# EAGLE library part FE22-2 (library con-edge-100)
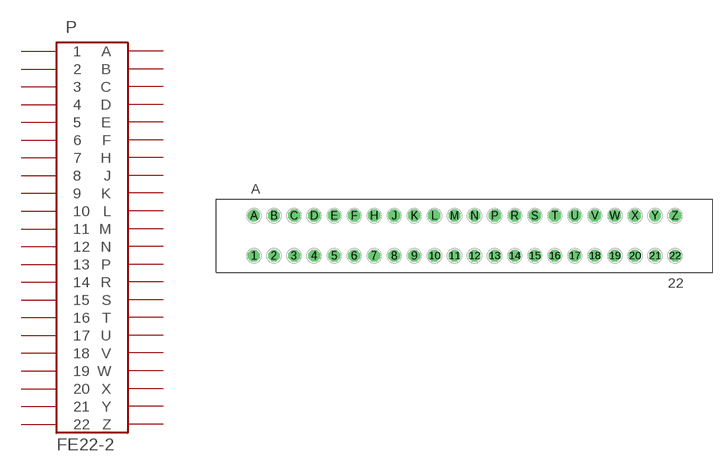
[diagram p1: symbol with the pads of FE22-2; footprint FE22-2]

Designator prefix P

## FE22-2  [FE22-2]
1  1  pas
2  2  pas
3  3  pas
4  4  pas
5  5  pas
6  6  pas
7  7  pas
8  8  pas
9  9  pas
10  10  pas
11  11  pas
12  12  pas
13  13  pas
14  14  pas
15  15  pas
16  16  pas
17  17  pas
18  18  pas
19  19  pas
20  20  pas
21  21  pas
22  22  pas
A  A  pas
B  B  pas
C  C  pas
D  D  pas
E  E  pas
F  F  pas
H  H  pas
J  J  pas
K  K  pas
L  L  pas
M  M  pas
N  N  pas
P  P  pas
R  R  pas
S  S  pas
T  T  pas
U  U  pas
V  V  pas
W  W  pas
X  X  pas
Y  Y  pas
Z  Z  pas

## Footprint FE22-2 (pad centres in mm)
drill 1 octagon: 1 -26.67,-2.54; 2 -24.13,-2.54; 3 -21.59,-2.54; 4 -19.05,-2.54; 5 -16.51,-2.54; 6 -13.97,-2.54; 7 -11.43,-2.54; 8 -8.89,-2.54; 9 -6.35,-2.54; 10 -3.81,-2.54; 11 -1.27,-2.54; 12 1.27,-2.54; 13 3.81,-2.54; 14 6.35,-2.54; 15 8.89,-2.54; 16 11.43,-2.54; 17 13.97,-2.54; 18 16.51,-2.54; 19 19.05,-2.54; 20 21.59,-2.54; 21 24.13,-2.54; 22 26.67,-2.54; B -24.13,2.54; C -21.59,2.54; D -19.05,2.54; E -16.51,2.54; F -13.97,2.54; H -11.43,2.54; J -8.89,2.54; K -6.35,2.54; L -3.81,2.54; M -1.27,2.54; N 1.27,2.54; P 3.81,2.54; R 6.35,2.54; S 8.89,2.54; T 11.43,2.54; U 13.97,2.54; V 16.51,2.54; W 19.05,2.54; X 21.59,2.54; Z 26.67,2.54
drill 1: A -26.67,2.54; Y 24.13,2.54